# Altium schematic symbol library Resistor.SchLib: 51 symbols (part 1 of 3)
Pins are listed as number, name and electrical type; pins without a type are passive.

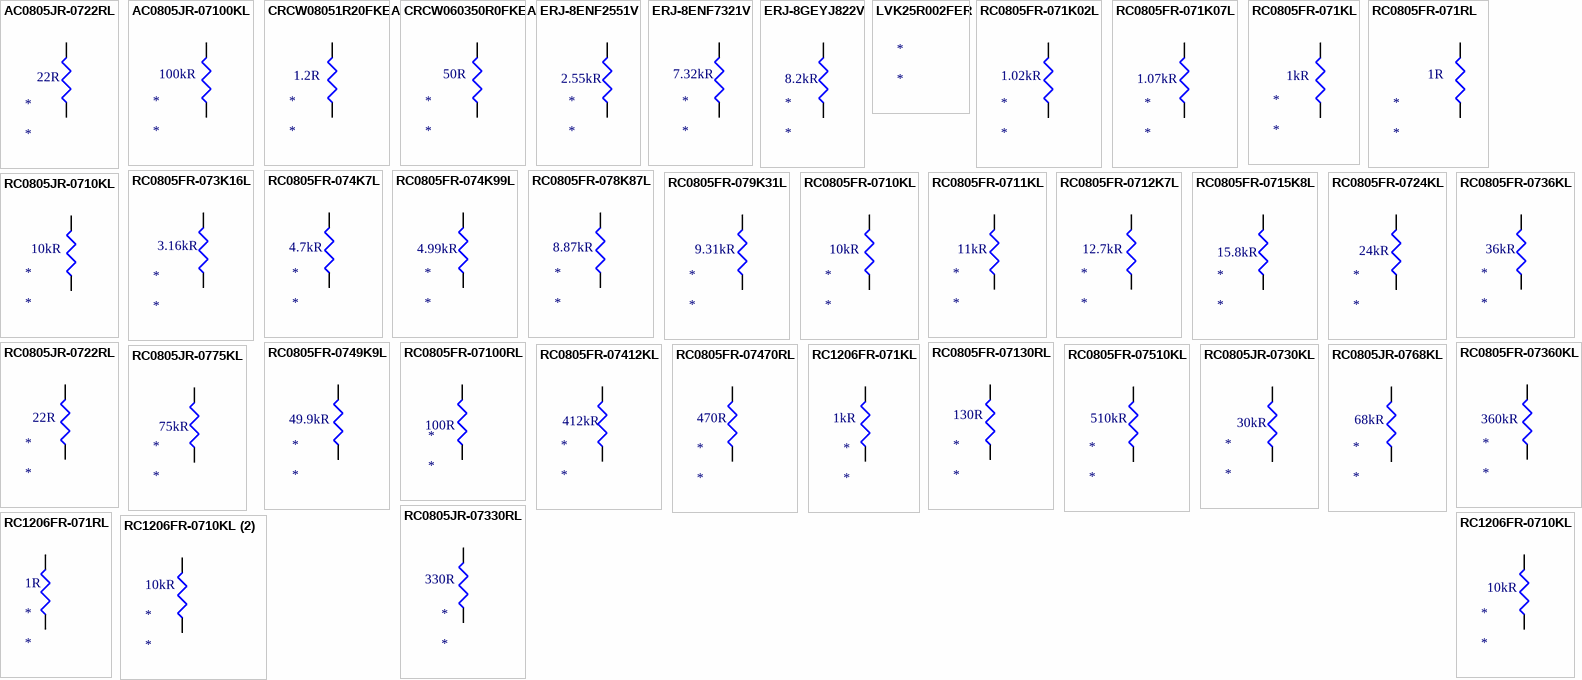
[diagram p0: symbols AC0805JR-0722RL to RC1206FR-0710KL (2)]

## AC0805JR-0722RL
designator *  Resistance: 22R
Thick Film Resistors SMD 0805  22ohm 5% 1/8W; Manufacturer 1: Yageo; Manufacturer Part Number 1: AC0805JR-0722RL; Description: Thick Film Resistors 1/8W 22ohm 5% AEC-Q200; Power Rating: 125mW; Voltage Rating: 150V; Temperature Coefficient: 100ppm/°C; Supplier 1: RSComponents; Stock 1: 2000; Pricing 1: 2500=0,00500 (GBP); RoHS: Yes; Case/Package: 0805; Case Code (Imperial): 0805; Case Code (Metric): 2012; Min Operating Temperature: -55°C; Max Operating Temperature: 155°C; Tolerance: 5%; Packaging: Tape and Reel; Resistor Type: Thick Film; Termination: SMD/SMT; Number of Terminations: 2; Max Power Dissipation: 125mW; Features: Moisture Resistant,Automotive AEC-Q200; Series: AC; Length: 0.079inch; Width: 0.049inch; Height: 0.024inch; RoHS Compliant: Yes; ComponentLink1URL: https://datasheet.ciiva.com/12656/pyu-ac-51-rohs-l-2-12656741.pdf?src-supplier=Mouser; ComponentLink1Description: https://datasheet.ciiva.com/12656/pyu-ac-51-rohs-l-2-12656741.pdf?src-supplier=Mouser; Supplier Part Number 1: 1978232P
pins: 1, 2

## AC0805JR-07100KL
designator *  Resistance: 100kR
Thick Film Resistors - SMD 0805  100K ohm 5% 1/8W; Manufacturer 1: Yageo; Manufacturer Part Number 1: AC0805JR-07100KL; Description: Thick Film Resistors - SMD 1/8W 100K ohm 5% AEC-Q200; Power Rating: 125mW; Voltage Rating: 150V; Temperature Coefficient: 100ppm/°C; Supplier 1: Digi-Key; Stock 1: 23; Pricing 1: 1=0,10000, 10=0,04300, 100=0,01730, 1000=0,00777, 2500=0,00674 (USD); RoHS: Yes; Case/Package: 0805; Case Code (Imperial): 0805; Case Code (Metric): 2012; Weight: 0.000194oz; Min Operating Temperature: -55°C; Max Operating Temperature: 155°C; Tolerance: 5%; Packaging: Tape and Reel; Resistor Type: Thick Film; Number of Terminations: 2; Termination: SMD/SMT; Max Power Dissipation: 125mW; Features: Moisture Resistant,Automotive AEC-Q200; Series: AC; Length: 0.079inch; Width: 0.049inch; Height: 0.024inch; RoHS Compliant: Yes; ComponentLink1URL: https://datasheet.ciiva.com/12576/pyu-ac-51-rohs-l-2-12576604.pdf?src-supplier=Mouser; ComponentLink1Description: https://datasheet.ciiva.com/12576/pyu-ac-51-rohs-l-2-12576604.pdf?src-supplier=Mouser; Supplier Part Number 1: YAG3756CT-ND
pins: 1, 2

## CRCW08051R20FKEA
designator *  Resistance: 1.2R
Res Thick Film smd 0805 1.2 Ohm 1% 0.125W(1/8W); Manufacturer 1: Vishay Dale; Manufacturer Part Number 1: CRCW08051R20FKEA; Description: Res Thick Film 0805 1.2 Ohm 1% 0.125W(1/8W) ±100ppm/°C Pad SMD Automotive T/R; Max Power Dissipation: 125mW; Temperature Coefficient: 100ppm/°C; Supplier 1: Digi-Key; Stock 1: 0; Pricing 1: 1=0,10000, 10=0,08500, 100=0,03280, 1000=0,01442, 2500=0,01246 (USD); RoHS: Yes; Case/Package: 0805; Case Code (Metric): 2012; Case Code (Imperial): 0805; Contact Plating: Tin; Min Operating Temperature: -55°C; Max Operating Temperature: 155°C; Tolerance: 1%; Packaging: Tape and Reel; Number of Terminations: 2; Features: Automotive AEC-Q200; Series: CRCW; Package Quantity: 10; Resistor Type: Thick Film; Construction: Rectangular; Length: 0.079inch; Width: 0.049inch; Height: 0.02inch; Depth: 1.25mm; Radiation Hardening: No; Lead Free: Lead Free; RoHS Compliant: Yes; Military Standard: Not; ComponentLink1URL: https://datasheet.ciiva.com/8337/dcrcwe3-8337642.pdf?src-supplier=Avnet; ComponentLink1Description: https://datasheet.ciiva.com/8337/dcrcwe3-8337642.pdf?src-supplier=Avnet; ComponentLink2URL: https://datasheet.ciiva.com/2562/dcrcwe3-2562854.pdf?src-supplier=Digi-Key; ComponentLink2Description: https://datasheet.ciiva.com/2562/dcrcwe3-2562854.pdf?src-supplier=Digi-Key; ComponentLink3URL: https://datasheet.ciiva.com/2562/dcrcwe3-2562855.pdf?src-supplier=Digi-Key; ComponentLink3Description: https://datasheet.ciiva.com/2562/dcrcwe3-2562855.pdf?src-supplier=Digi-Key; ComponentLink4URL: https://datasheet.ciiva.com/2562/dcrcwe3-2562856.pdf?src-supplier=Digi-Key; ComponentLink4Description: https://datasheet.ciiva.com/2562/dcrcwe3-2562856.pdf?src-supplier=Digi-Key; Supplier Part Number 1: 541-1.20CCCT-ND
pins: 1, 2

## CRCW060350R0FKEA
designator *  Resistance: 50R
VISHAY - CRCW060350R0FKEA - SMD  0603 [1608 Metric], 50 ohm, 100 mW; Manufacturer 1: Vishay Dale; Description: VISHAY - CRCW060350R0FKEA - SMD Chip Resistor, 0603 [1608 Metric], 50 ohm, CRCW e3 Series, 75 V, Thick Film, 100 mW; Tolerance: 1%; Temperature Coefficient: 100ppm/°C; Voltage Rating: 75V; Power Rating: 100mW; Supplier 1: Digi-Key; Manufacturer Part Number 1: CRCW060350R0FKEA; Stock 1: 0; Pricing 1: 1=0,10000, 10=0,05800, 100=0,02340, 1000=0,01051, 2500=0,00912 (USD); RoHS: Yes; Mount: Surface Mount; Case/Package: 0603; Number of Pins: 2; Contact Plating: Tin; Weight: 7.1E-05oz; Case Code (Imperial): 0603; Case Code (Metric): 1608; Size Code: 0603; Min Operating Temperature: -55°C; Max Operating Temperature: 155°C; Resistor Type: Thick Film; Packaging: Tape and Reel; Package Quantity: 5000; Termination: SMD/SMT; Voltage Rating (DC): 75V; Features: Automotive AEC-Q200; Series: CRCW; Max Power Dissipation: 100mW; Number of Terminations: 2; Construction: Rectangular; Resistance Tolerance: 1%; Technology: THICK FILM; Length: 1.55mm; Width: 0.85mm; Height: 0.45mm; Depth: 0.85mm; Radiation Hardening: No; REACH SVHC: No SVHC; Military Standard: Not; Lead Free: Lead Free; RoHS Compliant: Yes; ComponentLink1URL: https://datasheet.ciiva.com/7657/1786679-7657103.pdf?src-supplier=Element14; ComponentLink1Description: https://datasheet.ciiva.com/7657/1786679-7657103.pdf?src-supplier=Element14; ComponentLink2URL: https://datasheet.ciiva.com/7792/1359338-7792320.pdf?src-supplier=Element14; ComponentLink2Description: https://datasheet.ciiva.com/7792/1359338-7792320.pdf?src-supplier=Element14; ComponentLink3URL: https://datasheet.ciiva.com/22665/1697183-22665684.pdf?src-supplier=Element14; ComponentLink3Description: https://datasheet.ciiva.com/22665/1697183-22665684.pdf?src-supplier=Element14; ComponentLink4URL: https://datasheet.ciiva.com/6195/1359338-6195078.pdf?src-supplier=Farnell; ComponentLink4Description: https://datasheet.ciiva.com/6195/1359338-6195078.pdf?src-supplier=Farnell; ComponentLink5URL: https://datasheet.ciiva.com/6195/dcrcwe3-6195095.pdf?src-supplier=Farnell; ComponentLink5Description: https://datasheet.ciiva.com/6195/dcrcwe3-6195095.pdf?src-supplier=Farnell; ComponentLink6URL: https://datasheet.ciiva.com/5550/dcrcwe3-109170-5550010.pdf?src-supplier=Mouser; ComponentLink6Description: https://datasheet.ciiva.com/5550/dcrcwe3-109170-5550010.pdf?src-supplier=Mouser; ComponentLink7URL: https://datasheet.ciiva.com/16720/70201119-16720645.pdf?src-supplier=Allied+Electronics; ComponentLink7Description: https://datasheet.ciiva.com/16720/70201119-16720645.pdf?src-supplier=Allied+Electronics; ComponentLink8URL: https://datasheet.ciiva.com/16494/dcrcwe3-16494475.pdf?src-supplier=Future+Electronics; ComponentLink8Description: https://datasheet.ciiva.com/16494/dcrcwe3-16494475.pdf?src-supplier=Future+Electronics; ComponentLink9URL: https://datasheet.ciiva.com/16884/dcrcwe3-16884668.pdf?src-supplier=Avnet+Europe; ComponentLink9Description: https://datasheet.ciiva.com/16884/dcrcwe3-16884668.pdf?src-supplier=Avnet+Europe; ComponentLink10URL: https://datasheet.ciiva.com/16784/70201119-16784459.pdf?src-supplier=Allied+Electronics; ComponentLink10Description: https://datasheet.ciiva.com/16784/70201119-16784459.pdf?src-supplier=Allied+Electronics; Supplier Part Number 1: 541-3318-1-ND
pins: 1, 2

## ERJ-8ENF2551V
designator *  Resistance: 2.55kR
PANASONIC ELECTRONIC COMPONENTS     smd 1206 [3216 Metric], 2.55 kohm,1%,  250 mW,; Manufacturer Part Number 1: ERJ-8ENF2551V; Description: PANASONIC ELECTRONIC COMPONENTS         ERJ8ENF2551V             SMD Chip Resistor, Thick Film, 2.55 kohm, 200 V, 1206 [3216 Metric], 250 mW,  1%, ERJ8E Series; Power Rating: 250mW; Voltage Rating: 200V; Temperature Coefficient: 100ppm/°C; Supplier 1: Digi-Key; Manufacturer 1: Panasonic; Stock 1: 3235; Pricing 1: 1=0,10000, 10=0,09300, 100=0,03560, 1000=0,01569, 2500=0,01355 (USD); RoHS: Yes; Mount: Surface Mount; Case/Package: 1206; Case Code (Metric): 3216; Case Code (Imperial): 1206; Contact Plating: Tin; Min Operating Temperature: -55°C; Max Operating Temperature: 155°C; Tolerance: 1%; Packaging: Tape and Reel; Package Quantity: 1; Resistor Type: Thick Film; Number of Terminations: 2; Max Power Dissipation: 250mW; Voltage Rating (DC): 200V; Features: Automotive AEC-Q200; Series: ERJ; Resistance Tolerance: 1%; Construction: Rectangular; Length: 3.2mm; Width: 0.063inch; Height: 0.028inch; Depth: 1.6mm; REACH SVHC: No SVHC; Military Standard: Not; RoHS Compliant: Yes; ComponentLink1URL: https://datasheet.ciiva.com/24030/aoa0000ce2-24030810.pdf?src-supplier=Mouser; ComponentLink1Description: https://datasheet.ciiva.com/24030/aoa0000ce2-24030810.pdf?src-supplier=Mouser; ComponentLink2URL: https://datasheet.ciiva.com/9197/aoa0000ce2-9197018.pdf?src-supplier=Avnet; ComponentLink2Description: https://datasheet.ciiva.com/9197/aoa0000ce2-9197018.pdf?src-supplier=Avnet; ComponentLink3URL: https://datasheet.ciiva.com/22736/1678782-22736373.pdf?src-supplier=Element14; ComponentLink3Description: https://datasheet.ciiva.com/22736/1678782-22736373.pdf?src-supplier=Element14; ComponentLink4URL: https://datasheet.ciiva.com/22668/1678782-22668217.pdf?src-supplier=Element14; ComponentLink4Description: https://datasheet.ciiva.com/22668/1678782-22668217.pdf?src-supplier=Element14; Supplier Part Number 1: P2.55KFCT-ND
pins: 1, 2

## ERJ-8ENF7321V
designator *  Resistance: 7.32kR
PANASONIC ELECTRONIC COMPONENTS    SMD 1206 [3216 Metric]  7.32 kohm,  1%,  , 250 mW,; Manufacturer Part Number 1: ERJ-8ENF7321V; Description: PANASONIC ELECTRONIC COMPONENTS         ERJ8ENF7321V             SMD Chip Resistor, Thick Film, 7.32 kohm, 200 V, 1206 [3216 Metric], 250 mW,  1%, ERJ8E Series; Power Rating: 250mW; Voltage Rating: 200V; Temperature Coefficient: 100ppm/°C; Supplier 1: Digi-Key; Manufacturer 1: Panasonic; Stock 1: 14081; Pricing 1: 1=0,10000, 10=0,09300, 100=0,03560, 1000=0,01569, 2500=0,01355 (USD); RoHS: Yes; Mount: Surface Mount; Case/Package: 1206; Case Code (Metric): 3216; Case Code (Imperial): 1206; Contact Plating: Tin; Min Operating Temperature: -55°C; Max Operating Temperature: 155°C; Tolerance: 1%; Packaging: Tape and Reel; Package Quantity: 1; Resistor Type: Thick Film; Number of Terminations: 2; Max Power Dissipation: 250mW; Voltage Rating (DC): 200V; Features: Automotive AEC-Q200; Series: ERJ; Resistance Tolerance: 1%; Length: 0.126inch; Width: 0.063inch; Height: 0.028inch; REACH SVHC: Yes; Lead Free: Contains Lead; RoHS Compliant: Yes; ComponentLink1URL: https://datasheet.ciiva.com/24028/aoa0000ce2-24028743.pdf?src-supplier=Mouser; ComponentLink1Description: https://datasheet.ciiva.com/24028/aoa0000ce2-24028743.pdf?src-supplier=Mouser; ComponentLink2URL: https://datasheet.ciiva.com/22681/1678782-22681368.pdf?src-supplier=Element14; ComponentLink2Description: https://datasheet.ciiva.com/22681/1678782-22681368.pdf?src-supplier=Element14; Supplier Part Number 1: P7.32KFCT-ND
pins: 1, 2

## ERJ-8GEYJ822V
designator *  Resistance: 8.2kR
RES SMD 1206 8.2K OHM 5% 1/4W; Manufacturer 1: Panasonic; Manufacturer Part Number 1: ERJ-8GEYJ822V; Description: RES SMD 8.2K OHM 5% 1/4W 1206; Temperature Coefficient: 200ppm/°C; Power Rating: 250mW; Voltage Rating: 200V; Supplier 1: Digi-Key; Stock 1: 71483; Pricing 1: 1=0,10000, 10=0,06800, 100=0,02780, 1000=0,01249, 2500=0,01084 (USD); RoHS: Yes; Mount: Surface Mount; Case/Package: 1206; Contact Plating: Tin; Case Code (Metric): 3216; Case Code (Imperial): 1206; Min Operating Temperature: -55°C; Max Operating Temperature: 155°C; Tolerance: 5%; Resistor Type: Thick Film; Packaging: Tape and Reel; Package Quantity: 1; Number of Terminations: 2; Max Power Dissipation: 250mW; Voltage Rating (DC): 200V; Features: Automotive AEC-Q200; Series: ERJ; Resistance Tolerance: 5%; Construction: Rectangular; Length: 3.2mm; Width: 0.063inch; Height: 0.028inch; Depth: 1.6mm; Radiation Hardening: No; REACH SVHC: No SVHC; Military Standard: Not; Lead Free: Contains Lead; RoHS Compliant: Yes; ComponentLink1URL: https://datasheet.ciiva.com/9194/aoa0000ce1-9194699.pdf?src-supplier=Avnet; ComponentLink1Description: https://datasheet.ciiva.com/9194/aoa0000ce1-9194699.pdf?src-supplier=Avnet; ComponentLink2URL: https://datasheet.ciiva.com/43460/1500035-43460246.pdf?src-supplier=Farnell; ComponentLink2Description: https://datasheet.ciiva.com/43460/1500035-43460246.pdf?src-supplier=Farnell; ComponentLink3URL: https://datasheet.ciiva.com/16512/aoa0000ce1-16512520.pdf?src-supplier=Avnet+Asia; ComponentLink3Description: https://datasheet.ciiva.com/16512/aoa0000ce1-16512520.pdf?src-supplier=Avnet+Asia; ComponentLink4URL: https://datasheet.ciiva.com/24027/aoa0000ce1-37422-24027382.pdf?src-supplier=Mouser; ComponentLink4Description: https://datasheet.ciiva.com/24027/aoa0000ce1-37422-24027382.pdf?src-supplier=Mouser; ComponentLink5URL: https://datasheet.ciiva.com/17212/aoa0000ce1-17212362.pdf?src-supplier=Avnet+Europe; ComponentLink5Description: https://datasheet.ciiva.com/17212/aoa0000ce1-17212362.pdf?src-supplier=Avnet+Europe; ComponentLink6URL: https://datasheet.ciiva.com/30101/4aoa0000ce1-30101101.pdf?src-supplier=Onlinecomponents.com; ComponentLink6Description: https://datasheet.ciiva.com/30101/4aoa0000ce1-30101101.pdf?src-supplier=Onlinecomponents.com; ComponentLink7URL: https://datasheet.ciiva.com/46388/1500035-46388517.pdf?src-supplier=Element14; ComponentLink7Description: https://datasheet.ciiva.com/46388/1500035-46388517.pdf?src-supplier=Element14; ComponentLink8URL: https://datasheet.ciiva.com/28676/1678796-28676349.pdf?src-supplier=Element14; ComponentLink8Description: https://datasheet.ciiva.com/28676/1678796-28676349.pdf?src-supplier=Element14; ComponentLink9URL: https://datasheet.ciiva.com/46377/1500035-46377046.pdf?src-supplier=Element14; ComponentLink9Description: https://datasheet.ciiva.com/46377/1500035-46377046.pdf?src-supplier=Element14; Supplier Part Number 1: P8.2KECT-ND
pins: 1, 2

## LVK25R002FER
designator *
RES 0.002 OHM 2W 2512 WIDE; Manufacturer 1: Ohmite; Manufacturer Part Number 1: LVK25R002FER; Tolerance: 1%; Temperature Coefficient: 200ppm/°C; Supplier 1: Digi-Key; Stock 1: 11667; Pricing 1: 1=1,98000, 10=1,76000, 25=1,63200, 50=1,53600, 100=1,34400, 250=1,15200, 500=0,96000 (USD); RoHS: Yes; Mount: Surface Mount; Case/Package: 1224; Number of Pins: 2; Case Code (Metric): 3264; Case Code (Imperial): 1224; Min Operating Temperature: -40°C; Max Operating Temperature: 125°C; Power Rating: 2W; Packaging: Tape and Reel; Package Quantity: 1000; Resistor Type: Metal Film,Thick Film,Thin Film; Termination: SMD/SMT; Length: 3.2mm; Width: 6.4mm; Height: 0.5mm; Depth: 6.4mm; REACH SVHC: Unknown; RoHS Compliant: Yes; ComponentLink1URL: https://datasheet.ciiva.com/7715/575641-7715550.pdf?src-supplier=Element14; ComponentLink1Description: https://datasheet.ciiva.com/7715/575641-7715550.pdf?src-supplier=Element14; ComponentLink2URL: https://datasheet.ciiva.com/5970/575641-5970646.pdf?src-supplier=Farnell; ComponentLink2Description: https://datasheet.ciiva.com/5970/575641-5970646.pdf?src-supplier=Farnell; ComponentLink3URL: https://datasheet.ciiva.com/7715/575641-7715549.pdf?src-supplier=Element14; ComponentLink3Description: https://datasheet.ciiva.com/7715/575641-7715549.pdf?src-supplier=Element14; ComponentLink4URL: https://datasheet.ciiva.com/28655/1928848-28655701.pdf?src-supplier=Element14; ComponentLink4Description: https://datasheet.ciiva.com/28655/1928848-28655701.pdf?src-supplier=Element14; ComponentLink5URL: https://datasheet.ciiva.com/46385/1786747-46385481.pdf?src-supplier=Element14; ComponentLink5Description: https://datasheet.ciiva.com/46385/1786747-46385481.pdf?src-supplier=Element14; ComponentLink6URL: https://datasheet.ciiva.com/16783/70024650-16783654.pdf?src-supplier=Allied+Electronics; ComponentLink6Description: https://datasheet.ciiva.com/16783/70024650-16783654.pdf?src-supplier=Allied+Electronics; ComponentLink7URL: https://datasheet.ciiva.com/15865/40lvk-15865323.pdf?src-supplier=Onlinecomponents.com; ComponentLink7Description: https://datasheet.ciiva.com/15865/40lvk-15865323.pdf?src-supplier=Onlinecomponents.com; Supplier Part Number 1: LVK25R002FERCT-ND

## RC0805FR-071K02L
designator *  Resistance: 1.02kR
Res Thick Film smd 0805 1.02K Ohm 1% 0.125W(1/8W); Manufacturer 1: Yageo; Manufacturer Part Number 1: RC0805FR-071K02L; Description: Res Thick Film 2.0 x 1.2 mm 1.02K Ohm 1% 0.125W(1/8W) 100ppm/ C Molded SMD Paper T/R; Voltage Rating: 150V; Power Rating: 125mW; Temperature Coefficient: 100ppm/°C; Supplier 1: Digi-Key; Stock 1: 21780; Pricing 1: 1=0,10000, 10=0,04200, 100=0,01690, 1000=0,00759, 2500=0,00659 (USD); RoHS: Yes; Case/Package: 0805; Case Code (Imperial): 0805; Case Code (Metric): 2012; Size Code: 0805; Min Operating Temperature: -55°C; Max Operating Temperature: 155°C; Tolerance: 1%; Packaging: Tape and Reel; Termination: SMD/SMT; Resistor Type: Thick Film; Voltage Rating (DC): 150V; Features: Moisture Resistant; Series: RC; Max Power Dissipation: 125mW; Number of Terminations: 2; Construction: Rectangular; Length: 2mm; Width: 1.25mm; Height: 0.5mm; Depth: 1.25mm; Military Standard: Not; Lead Free: Lead Free; RoHS Compliant: Yes; ComponentLink1URL: https://datasheet.ciiva.com/12557/rc0805-257173-12557847.pdf?src-supplier=Mouser; ComponentLink1Description: https://datasheet.ciiva.com/12557/rc0805-257173-12557847.pdf?src-supplier=Mouser; ComponentLink2URL: https://datasheet.ciiva.com/16746/rc0805-16746216.pdf?src-supplier=Future+Electronics; ComponentLink2Description: https://datasheet.ciiva.com/16746/rc0805-16746216.pdf?src-supplier=Future+Electronics; Supplier Part Number 1: 311-1.02KCRCT-ND
pins: 1, 2

## RC0805FR-071K07L
designator *  Resistance: 1.07kR
Res Thick Film smd 0805 1.07K Ohm 1% 1/8W; Manufacturer 1: Yageo; Manufacturer Part Number 1: RC0805FR-071K07L; Description: Res Thick Film 0805 1.07K Ohm 1% 1/8W 100ppm/C Molded SMD Paper T/R; Temperature Coefficient: 100ppm/°C; Power Rating: 125mW; Voltage Rating: 150V; Supplier 1: Digi-Key; Stock 1: 16589; Pricing 1: 1=0,10000, 10=0,04200, 100=0,01690, 1000=0,00759, 2500=0,00659 (USD); RoHS: Yes; Case/Package: 0805; Contact Plating: Tin,Matte; Case Code (Imperial): 0805; Case Code (Metric): 2012; Size Code: 0805; Min Operating Temperature: -55°C; Max Operating Temperature: 155°C; Tolerance: 1%; Resistor Type: Thick Film; Packaging: Tape and Reel; Package Quantity: 1; Termination: SMD/SMT; Number of Terminations: 2; Max Power Dissipation: 125mW; Voltage Rating (DC): 150V; Features: Moisture Resistant; Series: RC; Construction: Rectangular; Length: 2mm; Width: 1.25mm; Height: 0.024inch; Depth: 1.25mm; Military Standard: Not; Lead Free: Lead Free; RoHS Compliant: Yes; ComponentLink1URL: https://datasheet.ciiva.com/2491/pyu-r-int-thick-7-2491690.pdf?src-supplier=Digi-Key; ComponentLink1Description: https://datasheet.ciiva.com/2491/pyu-r-int-thick-7-2491690.pdf?src-supplier=Digi-Key; ComponentLink2URL: https://datasheet.ciiva.com/2491/pyu-r-int-thick-7-2491691.pdf?src-supplier=Digi-Key; ComponentLink2Description: https://datasheet.ciiva.com/2491/pyu-r-int-thick-7-2491691.pdf?src-supplier=Digi-Key; ComponentLink3URL: https://datasheet.ciiva.com/2491/pyu-r-int-thick-7-2491692.pdf?src-supplier=Digi-Key; ComponentLink3Description: https://datasheet.ciiva.com/2491/pyu-r-int-thick-7-2491692.pdf?src-supplier=Digi-Key; ComponentLink4URL: https://datasheet.ciiva.com/17054/rc0805-17054582.pdf?src-supplier=Future+Electronics; ComponentLink4Description: https://datasheet.ciiva.com/17054/rc0805-17054582.pdf?src-supplier=Future+Electronics; Supplier Part Number 1: 311-1.07KCRCT-ND
pins: 1, 2

## RC0805FR-071KL
designator *  Resistance: 1kR
RES SMD 0805 1K OHM 1% 1/8W; Manufacturer 1: Yageo; Manufacturer Part Number 1: RC0805FR-071KL; Description: RES SMD 1K OHM 1% 1/8W 0805; Temperature Coefficient: 100ppm/°C; Voltage Rating (DC): 150V; Power Rating: 125mW; Supplier 1: Digi-Key; Stock 1: 3222339; Pricing 1: 1=0,10000, 10=0,04200, 100=0,01690, 1000=0,00759, 2500=0,00659 (USD); RoHS: Yes; Case/Package: 0805; Number of Pins: 2; Case Code (Metric): 2012; Case Code (Imperial): 0805; Size Code: 0805; Min Operating Temperature: -55°C; Max Operating Temperature: 155°C; Tolerance: 1%; Resistor Type: Thick Film; Packaging: Tape and Reel; Package Quantity: 1; Voltage Rating: 150V; Number of Terminations: 2; Termination: SMD/SMT; Max Power Dissipation: 125mW; Features: Moisture Resistant; Series: RC; Resistance Tolerance: 1%; Construction: Rectangular; Length: 0.079inch; Width: 0.049inch; Height: 0.024inch; Depth: 1.25mm; REACH SVHC: Unknown; Lead Free: Lead Free; RoHS Compliant: Yes; Military Standard: Not; ComponentLink1URL: https://datasheet.ciiva.com/46385/444164-46385020.pdf?src-supplier=Element14; ComponentLink1Description: https://datasheet.ciiva.com/46385/444164-46385020.pdf?src-supplier=Element14; ComponentLink2URL: https://datasheet.ciiva.com/2456/pyu-r-int-thick-7-2456975.pdf?src-supplier=Digi-Key; ComponentLink2Description: https://datasheet.ciiva.com/2456/pyu-r-int-thick-7-2456975.pdf?src-supplier=Digi-Key; ComponentLink3URL: https://datasheet.ciiva.com/2456/pyu-r-int-thick-7-2456976.pdf?src-supplier=Digi-Key; ComponentLink3Description: https://datasheet.ciiva.com/2456/pyu-r-int-thick-7-2456976.pdf?src-supplier=Digi-Key; ComponentLink4URL: https://datasheet.ciiva.com/2456/pyu-r-int-thick-7-2456977.pdf?src-supplier=Digi-Key; ComponentLink4Description: https://datasheet.ciiva.com/2456/pyu-r-int-thick-7-2456977.pdf?src-supplier=Digi-Key; ComponentLink5URL: https://datasheet.ciiva.com/16850/rc0805-16850409.pdf?src-supplier=Future+Electronics; ComponentLink5Description: https://datasheet.ciiva.com/16850/rc0805-16850409.pdf?src-supplier=Future+Electronics; ComponentLink6URL: https://datasheet.ciiva.com/7941/1686128-7941719.pdf?src-supplier=Element14; ComponentLink6Description: https://datasheet.ciiva.com/7941/1686128-7941719.pdf?src-supplier=Element14; Supplier Part Number 1: 311-1.00KCRCT-ND
pins: 1, 2

## RC0805FR-071RL
designator *  Resistance: 1R
YAGEO - RC0805FR-071RL - SMD  0805 [2012 Metric], 1 ohm, RC  125 mW; Description: YAGEO - RC0805FR-071RL - SMD Chip Resistor, 0805 [2012 Metric], 1 ohm, RC Series, 150 V, Thick Film, 125 mW; Voltage Rating: 150V; Tolerance: 1%; Power Rating: 125mW; Temperature Coefficient: 200ppm/°C; Supplier 1: Digi-Key; Manufacturer 1: Yageo; Manufacturer Part Number 1: RC0805FR-071RL; Stock 1: 0; Pricing 1: 1=0,10000, 10=0,08300, 100=0,03390, 1000=0,01521, 2500=0,01320 (USD); RoHS: Yes; Case/Package: 0805; Case Code (Imperial): 0805; Case Code (Metric): 2012; Size Code: 0805; Min Operating Temperature: -55°C; Max Operating Temperature: 155°C; Packaging: Tape and Reel; Package Quantity: 1; Termination: SMD/SMT; Resistor Type: Thick Film; Number of Terminations: 2; Max Power Dissipation: 125mW; Features: Moisture Resistant; Series: RC; Resistance Tolerance: 1%; Construction: Rectangular; Technology: THICK FILM; Length: 2mm; Width: 0.049inch; Height: 0.024inch; Depth: 1.25mm; REACH SVHC: Unknown; Military Standard: Not; Lead Free: Lead Free; RoHS Compliant: Yes; ComponentLink1URL: https://datasheet.ciiva.com/11808/0900766b8106beab-11808253.pdf?src-supplier=RSComponents; ComponentLink1Description: https://datasheet.ciiva.com/11808/0900766b8106beab-11808253.pdf?src-supplier=RSComponents; ComponentLink2URL: https://datasheet.ciiva.com/2459/pyu-r-int-thick-7-2459662.pdf?src-supplier=Digi-Key; ComponentLink2Description: https://datasheet.ciiva.com/2459/pyu-r-int-thick-7-2459662.pdf?src-supplier=Digi-Key; ComponentLink3URL: https://datasheet.ciiva.com/2459/pyu-r-int-thick-7-2459661.pdf?src-supplier=Digi-Key; ComponentLink3Description: https://datasheet.ciiva.com/2459/pyu-r-int-thick-7-2459661.pdf?src-supplier=Digi-Key; ComponentLink4URL: https://datasheet.ciiva.com/2459/pyu-r-int-thick-7-2459663.pdf?src-supplier=Digi-Key; ComponentLink4Description: https://datasheet.ciiva.com/2459/pyu-r-int-thick-7-2459663.pdf?src-supplier=Digi-Key; ComponentLink5URL: https://datasheet.ciiva.com/7941/444164-7941736.pdf?src-supplier=Element14; ComponentLink5Description: https://datasheet.ciiva.com/7941/444164-7941736.pdf?src-supplier=Element14; ComponentLink6URL: https://datasheet.ciiva.com/7941/444164-7941737.pdf?src-supplier=Element14; ComponentLink6Description: https://datasheet.ciiva.com/7941/444164-7941737.pdf?src-supplier=Element14; Supplier Part Number 1: 311-1.00CRDKR-ND
pins: 1, 2

## RC0805FR-073K16L
designator *  Resistance: 3.16kR
Res Thick Film smd 0805 3.16K Ohm 1% 0.125W(1/8W); Manufacturer 1: Yageo; Manufacturer Part Number 1: RC0805FR-073K16L; Description: Res Thick Film 2.0 x 1.2 mm 3.16K Ohm 1% 0.125W(1/8W) 100ppm/ C Molded SMD Paper T/R; Power Rating: 125mW; Voltage Rating: 150V; Temperature Coefficient: 100ppm/°C; Supplier 1: Digi-Key; Stock 1: 24399; Pricing 1: 1=0,10000, 10=0,04200, 100=0,01690, 1000=0,00759, 2500=0,00659 (USD); RoHS: Yes; Case/Package: 0805; Case Code (Metric): 2012; Case Code (Imperial): 0805; Weight: 0.000194oz; Size Code: 0805; Min Operating Temperature: -55°C; Max Operating Temperature: 155°C; Tolerance: 1%; Package Quantity: 1; Packaging: Tape and Reel; Resistor Type: Thick Film; Number of Terminations: 2; Termination: SMD/SMT; Max Power Dissipation: 125mW; Voltage Rating (DC): 150V; Features: Moisture Resistant; Series: RC; Construction: Rectangular; Length: 2mm; Width: 0.049inch; Height: 0.024inch; Depth: 1.25mm; Military Standard: Not; Lead Free: Lead Free; RoHS Compliant: Yes; ComponentLink1URL: https://datasheet.ciiva.com/2457/pyu-r-int-thick-7-2457284.pdf?src-supplier=Digi-Key; ComponentLink1Description: https://datasheet.ciiva.com/2457/pyu-r-int-thick-7-2457284.pdf?src-supplier=Digi-Key; ComponentLink2URL: https://datasheet.ciiva.com/2457/pyu-r-int-thick-7-2457285.pdf?src-supplier=Digi-Key; ComponentLink2Description: https://datasheet.ciiva.com/2457/pyu-r-int-thick-7-2457285.pdf?src-supplier=Digi-Key; ComponentLink3URL: https://datasheet.ciiva.com/2457/pyu-r-int-thick-7-2457286.pdf?src-supplier=Digi-Key; ComponentLink3Description: https://datasheet.ciiva.com/2457/pyu-r-int-thick-7-2457286.pdf?src-supplier=Digi-Key; ComponentLink4URL: https://datasheet.ciiva.com/12577/rc0805-12577436.pdf?src-supplier=Mouser; ComponentLink4Description: https://datasheet.ciiva.com/12577/rc0805-12577436.pdf?src-supplier=Mouser; Supplier Part Number 1: 311-3.16KCRCT-ND
pins: 1, 2

## RC0805FR-074K7L
designator *  Resistance: 4.7kR
YAGEO - RC0805FR-074K7L - SMD  0805 [2012 Metric], 4.7 kohm,  125 mW; Description: YAGEO - RC0805FR-074K7L - SMD Chip Resistor, 0805 [2012 Metric], 4.7 kohm, RC Series, 150 V, Thick Film, 125 mW; Tolerance: 1%; Temperature Coefficient: 100ppm/°C; Voltage Rating (DC): 150V; Power Rating: 125mW; Supplier 1: RSComponents; Manufacturer 1: Yageo; Manufacturer Part Number 1: RC0805FR-074K7L; Stock 1: 55000; Pricing 1: 5000=0,00500 (GBP); RoHS: Yes; Case/Package: 0805; Number of Pins: 2; Case Code (Metric): 2012; Case Code (Imperial): 0805; Size Code: 0805; Min Operating Temperature: -55°C; Max Operating Temperature: 155°C; Resistor Type: Thick Film; Packaging: Tape and Reel; Package Quantity: 5000; Voltage Rating: 150V; Number of Terminations: 2; Termination: SMD/SMT; Max Power Dissipation: 125mW; Features: Moisture Resistant; Series: RC; Resistance Tolerance: 1%; Technology: THICK FILM; Construction: Rectangular; Length: 0.079inch; Width: 0.049inch; Height: 0.024inch; Depth: 1.25mm; REACH SVHC: No SVHC; Lead Free: Lead Free; RoHS Compliant: Yes; Military Standard: Not; ComponentLink1URL: https://datasheet.ciiva.com/11808/0900766b8106beab-11808155.pdf?src-supplier=RSComponents; ComponentLink1Description: https://datasheet.ciiva.com/11808/0900766b8106beab-11808155.pdf?src-supplier=RSComponents; ComponentLink2URL: https://datasheet.ciiva.com/6547/pyu-r-int-thick-7-6547263.pdf?src-supplier=Digi-Key; ComponentLink2Description: https://datasheet.ciiva.com/6547/pyu-r-int-thick-7-6547263.pdf?src-supplier=Digi-Key; ComponentLink3URL: https://datasheet.ciiva.com/7941/444164-7941806.pdf?src-supplier=Element14; ComponentLink3Description: https://datasheet.ciiva.com/7941/444164-7941806.pdf?src-supplier=Element14; ComponentLink4URL: https://datasheet.ciiva.com/46447/444164-46447583.pdf?src-supplier=Element14; ComponentLink4Description: https://datasheet.ciiva.com/46447/444164-46447583.pdf?src-supplier=Element14; ComponentLink5URL: https://datasheet.ciiva.com/7941/444164-7941804.pdf?src-supplier=Element14; ComponentLink5Description: https://datasheet.ciiva.com/7941/444164-7941804.pdf?src-supplier=Element14; ComponentLink6URL: https://datasheet.ciiva.com/7941/1686128-7941805.pdf?src-supplier=Element14; ComponentLink6Description: https://datasheet.ciiva.com/7941/1686128-7941805.pdf?src-supplier=Element14; Supplier Part Number 1: 6181408
pins: 1, 2

## RC0805FR-074K99L
designator *  Resistance: 4.99kR
Res Thick Film smd 0805 4.99K Ohm 1% 0.125W(1/8W); Manufacturer 1: Yageo; Manufacturer Part Number 1: RC0805FR-074K99L; Description: Res Thick Film 0805 4.99K Ohm 1% 0.125W(1/8W) ±100ppm/C Epoxy Pad SMD T/R; Power Rating: 125mW; Voltage Rating: 150V; Temperature Coefficient: 100ppm/°C; Supplier 1: RSComponents; Stock 1: 34999; Pricing 1: 5000=0,00400 (GBP); RoHS: Yes; Mount: Surface Mount; Case/Package: 0805; Case Code (Metric): 2012; Case Code (Imperial): 0805; Size Code: 0805; Min Operating Temperature: -55°C; Max Operating Temperature: 155°C; Packaging: Tape and Reel; Tolerance: 1%; Package Quantity: 1; Resistor Type: Thick Film; Number of Terminations: 2; Termination: SMD/SMT; Max Power Dissipation: 125mW; Voltage Rating (DC): 150V; Features: Moisture Resistant; Series: RC; Construction: Rectangular; Technology: THICK FILM; Length: 2mm; Width: 0.049inch; Height: 0.024inch; Depth: 1.25mm; Military Standard: Not; Lead Free: Lead Free; RoHS Compliant: Yes; ComponentLink1URL: https://datasheet.ciiva.com/11808/0900766b8106beab-11808099.pdf?src-supplier=RSComponents; ComponentLink1Description: https://datasheet.ciiva.com/11808/0900766b8106beab-11808099.pdf?src-supplier=RSComponents; ComponentLink2URL: https://datasheet.ciiva.com/2456/pyu-r-int-thick-7-2456983.pdf?src-supplier=Digi-Key; ComponentLink2Description: https://datasheet.ciiva.com/2456/pyu-r-int-thick-7-2456983.pdf?src-supplier=Digi-Key; ComponentLink3URL: https://datasheet.ciiva.com/12656/rc0805-12656731.pdf?src-supplier=Mouser; ComponentLink3Description: https://datasheet.ciiva.com/12656/rc0805-12656731.pdf?src-supplier=Mouser; ComponentLink4URL: https://datasheet.ciiva.com/2456/pyu-r-int-thick-7-2456981.pdf?src-supplier=Digi-Key; ComponentLink4Description: https://datasheet.ciiva.com/2456/pyu-r-int-thick-7-2456981.pdf?src-supplier=Digi-Key; ComponentLink5URL: https://datasheet.ciiva.com/2456/pyu-r-int-thick-7-2456982.pdf?src-supplier=Digi-Key; ComponentLink5Description: https://datasheet.ciiva.com/2456/pyu-r-int-thick-7-2456982.pdf?src-supplier=Digi-Key; Supplier Part Number 1: 6181420
pins: 1, 2

## RC0805FR-078K87L
designator *  Resistance: 8.87kR
Res Thick Film smd 0805 8.87K Ohm 1% 0.125W(1/8W); Manufacturer 1: Yageo; Manufacturer Part Number 1: RC0805FR-078K87L; Description: Res Thick Film 0805 8.87K Ohm 1% 0.125W(1/8W) ±100ppm/C Epoxy Pad SMD T/R; Temperature Coefficient: 100ppm/°C; Power Rating: 125mW; Voltage Rating: 150V; Supplier 1: Digi-Key; Stock 1: 7; Pricing 1: 1=0,10000, 10=0,04200, 100=0,01690, 1000=0,00759, 2500=0,00659 (USD); RoHS: Yes; Case/Package: 0805; Contact Plating: Tin,Lead,Matte; Case Code (Metric): 2012; Case Code (Imperial): 0805; Size Code: 0805; Min Operating Temperature: -55°C; Max Operating Temperature: 155°C; Tolerance: 1%; Resistor Type: Thick Film; Package Quantity: 1; Packaging: Tape and Reel; Number of Terminations: 2; Termination: SMD/SMT; Max Power Dissipation: 125mW; Voltage Rating (DC): 150V; Features: Moisture Resistant; Series: RC; Construction: Rectangular; Length: 2mm; Width: 0.049inch; Height: 0.024inch; Depth: 1.25mm; Radiation Hardening: No; Military Standard: Not; Lead Free: Lead Free; RoHS Compliant: Yes; ComponentLink1URL: https://datasheet.ciiva.com/2491/pyu-r-int-thick-7-2491577.pdf?src-supplier=Digi-Key; ComponentLink1Description: https://datasheet.ciiva.com/2491/pyu-r-int-thick-7-2491577.pdf?src-supplier=Digi-Key; ComponentLink2URL: https://datasheet.ciiva.com/2491/pyu-r-int-thick-7-2491578.pdf?src-supplier=Digi-Key; ComponentLink2Description: https://datasheet.ciiva.com/2491/pyu-r-int-thick-7-2491578.pdf?src-supplier=Digi-Key; ComponentLink3URL: https://datasheet.ciiva.com/2491/pyu-r-int-thick-7-2491576.pdf?src-supplier=Digi-Key; ComponentLink3Description: https://datasheet.ciiva.com/2491/pyu-r-int-thick-7-2491576.pdf?src-supplier=Digi-Key; ComponentLink4URL: https://datasheet.ciiva.com/17423/rc0805-17423031.pdf?src-supplier=Future+Electronics; ComponentLink4Description: https://datasheet.ciiva.com/17423/rc0805-17423031.pdf?src-supplier=Future+Electronics; Supplier Part Number 1: 311-8.87KCRCT-ND
pins: 1, 2

## RC0805FR-079K31L
designator *  Resistance: 9.31kR
Res Thick Film smd 0805 9.31K Ohm 1% 0.125W(1/8W); Manufacturer 1: Yageo; Manufacturer Part Number 1: RC0805FR-079K31L; Description: Res Thick Film 0805 9.31K Ohm 1% 0.125W(1/8W) ±100ppm/C Molded SMD Paper T/R; Temperature Coefficient: 100ppm/°C; Power Rating: 125mW; Voltage Rating: 150V; Supplier 1: Digi-Key; Stock 1: 10181; Pricing 1: 1=0,10000, 10=0,04200, 100=0,01690, 1000=0,00759, 2500=0,00659 (USD); RoHS: Yes; Case/Package: 0805; Contact Plating: Tin,Lead,Matte; Case Code (Imperial): 0805; Case Code (Metric): 2012; Size Code: 0805; Min Operating Temperature: -55°C; Max Operating Temperature: 155°C; Tolerance: 1%; Resistor Type: Thick Film; Packaging: Tape and Reel; Package Quantity: 1; Termination: SMD/SMT; Number of Terminations: 2; Max Power Dissipation: 125mW; Voltage Rating (DC): 150V; Features: Moisture Resistant; Series: RC; Construction: Rectangular; Length: 2mm; Width: 1.25mm; Height: 0.024inch; Depth: 1.25mm; Radiation Hardening: No; Military Standard: Not; Lead Free: Lead Free; RoHS Compliant: Yes; ComponentLink1URL: https://datasheet.ciiva.com/2457/pyu-r-int-thick-7-2457635.pdf?src-supplier=Digi-Key; ComponentLink1Description: https://datasheet.ciiva.com/2457/pyu-r-int-thick-7-2457635.pdf?src-supplier=Digi-Key; ComponentLink2URL: https://datasheet.ciiva.com/2457/pyu-r-int-thick-7-2457636.pdf?src-supplier=Digi-Key; ComponentLink2Description: https://datasheet.ciiva.com/2457/pyu-r-int-thick-7-2457636.pdf?src-supplier=Digi-Key; ComponentLink3URL: https://datasheet.ciiva.com/2457/pyu-r-int-thick-7-2457637.pdf?src-supplier=Digi-Key; ComponentLink3Description: https://datasheet.ciiva.com/2457/pyu-r-int-thick-7-2457637.pdf?src-supplier=Digi-Key; ComponentLink4URL: https://datasheet.ciiva.com/17074/rc0805-17074679.pdf?src-supplier=Future+Electronics; ComponentLink4Description: https://datasheet.ciiva.com/17074/rc0805-17074679.pdf?src-supplier=Future+Electronics; Supplier Part Number 1: 311-9.31KCRCT-ND
pins: 1, 2

## RC0805FR-0710KL
designator *  Resistance: 10kR
RES SMD  0805 10K OHM 1% 1/8W; Manufacturer 1: Yageo; Manufacturer Part Number 1: RC0805FR-0710KL; Description: RES SMD 10K OHM 1% 1/8W 0805; Temperature Coefficient: 100ppm/°C; Power Rating: 125mW; Voltage Rating: 150V; Supplier 1: Digi-Key; Stock 1: 7813114; Pricing 1: 1=0,10000, 10=0,04200, 100=0,01690, 1000=0,00759, 2500=0,00659 (USD); RoHS: Yes; Case/Package: 0805; Case Code (Imperial): 0805; Case Code (Metric): 2012; Size Code: 0805; Min Operating Temperature: -55°C; Max Operating Temperature: 155°C; Tolerance: 1%; Resistor Type: Thick Film; Packaging: Tape and Reel; Package Quantity: 1; Termination: SMD/SMT; Number of Terminations: 2; Max Power Dissipation: 125mW; Features: Moisture Resistant; Series: RC; Construction: Rectangular; Resistance Tolerance: 1%; Technology: THICK FILM; Length: 2mm; Width: 0.049inch; Height: 0.024inch; Depth: 1.25mm; REACH SVHC: Unknown; Military Standard: Not; Lead Free: Lead Free; RoHS Compliant: Yes; ComponentLink1URL: https://datasheet.ciiva.com/11808/0900766b8106beab-11808151.pdf?src-supplier=RSComponents; ComponentLink1Description: https://datasheet.ciiva.com/11808/0900766b8106beab-11808151.pdf?src-supplier=RSComponents; ComponentLink2URL: https://datasheet.ciiva.com/12669/rc0805-12669688.pdf?src-supplier=Mouser; ComponentLink2Description: https://datasheet.ciiva.com/12669/rc0805-12669688.pdf?src-supplier=Mouser; ComponentLink3URL: https://datasheet.ciiva.com/2456/pyu-r-int-thick-7-2456974.pdf?src-supplier=Digi-Key; ComponentLink3Description: https://datasheet.ciiva.com/2456/pyu-r-int-thick-7-2456974.pdf?src-supplier=Digi-Key; ComponentLink4URL: https://datasheet.ciiva.com/2456/pyu-r-int-thick-7-2456972.pdf?src-supplier=Digi-Key; ComponentLink4Description: https://datasheet.ciiva.com/2456/pyu-r-int-thick-7-2456972.pdf?src-supplier=Digi-Key; ComponentLink5URL: https://datasheet.ciiva.com/2456/pyu-r-int-thick-7-2456973.pdf?src-supplier=Digi-Key; ComponentLink5Description: https://datasheet.ciiva.com/2456/pyu-r-int-thick-7-2456973.pdf?src-supplier=Digi-Key; ComponentLink6URL: https://datasheet.ciiva.com/16747/rc0805-16747087.pdf?src-supplier=Future+Electronics; ComponentLink6Description: https://datasheet.ciiva.com/16747/rc0805-16747087.pdf?src-supplier=Future+Electronics; ComponentLink7URL: https://datasheet.ciiva.com/46447/444164-46447563.pdf?src-supplier=Element14; ComponentLink7Description: https://datasheet.ciiva.com/46447/444164-46447563.pdf?src-supplier=Element14; Supplier Part Number 1: 311-10.0KCRCT-ND
pins: 1, 2

## RC0805FR-0711KL
designator *  Resistance: 11kR
Res Thick Film smd 0805 11K Ohm 1% 0.125W(1/8W); Manufacturer 1: Yageo; Manufacturer Part Number 1: RC0805FR-0711KL; Description: Res Thick Film 0805 11K Ohm 1% 0.125W(1/8W) ±100ppm/C Pad SMD T/R; Power Rating: 125mW; Voltage Rating: 150V; Temperature Coefficient: 100ppm/°C; Supplier 1: Digi-Key; Stock 1: 63887; Pricing 1: 1=0,10000, 10=0,04200, 100=0,01690, 1000=0,00759, 2500=0,00659 (USD); RoHS: Yes; Mount: Surface Mount; Case/Package: 0805; Case Code (Imperial): 0805; Case Code (Metric): 2012; Size Code: 0805; Min Operating Temperature: -55°C; Max Operating Temperature: 155°C; Tolerance: 1%; Packaging: Tape and Reel; Package Quantity: 5000; Termination: SMD/SMT; Resistor Type: Thick Film; Voltage Rating (DC): 150V; Features: Moisture Resistant; Series: RC; Max Power Dissipation: 125mW; Number of Terminations: 2; Construction: Rectangular; Technology: THICK FILM; Length: 2mm; Width: 1.25mm; Height: 0.5mm; Depth: 1.25mm; Military Standard: Not; Lead Free: Lead Free; RoHS Compliant: Yes; ComponentLink1URL: https://datasheet.ciiva.com/11819/0900766b8106beab-11819790.pdf?src-supplier=RSComponents; ComponentLink1Description: https://datasheet.ciiva.com/11819/0900766b8106beab-11819790.pdf?src-supplier=RSComponents; ComponentLink2URL: https://datasheet.ciiva.com/12558/rc0805-257173-12558664.pdf?src-supplier=Mouser; ComponentLink2Description: https://datasheet.ciiva.com/12558/rc0805-257173-12558664.pdf?src-supplier=Mouser; Supplier Part Number 1: 311-11.0KCRCT-ND
pins: 1, 2

## RC0805FR-0712K7L
designator *  Resistance: 12.7kR
RES SMD 0805 12.7K OHM 1% 1/8W; Manufacturer 1: Yageo; Manufacturer Part Number 1: RC0805FR-0712K7L; Description: RES SMD 12.7K OHM 1% 1/8W 0805; Voltage Rating: 150V; Power Rating: 125mW; Temperature Coefficient: 100ppm/°C; Supplier 1: Digi-Key; Stock 1: 158859; Pricing 1: 1=0,10000, 10=0,04200, 100=0,01690, 1000=0,00759, 2500=0,00659 (USD); RoHS: Yes; Case/Package: 0805; Case Code (Imperial): 0805; Case Code (Metric): 2012; Size Code: 0805; Min Operating Temperature: -55°C; Max Operating Temperature: 155°C; Tolerance: 1%; Packaging: Tape and Reel; Package Quantity: 1; Termination: SMD/SMT; Resistor Type: Thick Film; Number of Terminations: 2; Max Power Dissipation: 125mW; Voltage Rating (DC): 150V; Features: Moisture Resistant; Series: RC; Construction: Rectangular; Length: 2mm; Width: 1.25mm; Height: 0.024inch; Depth: 1.25mm; Military Standard: Not; Lead Free: Lead Free; RoHS Compliant: Yes; ComponentLink1URL: https://datasheet.ciiva.com/12555/rc0805-257173-12555397.pdf?src-supplier=Mouser; ComponentLink1Description: https://datasheet.ciiva.com/12555/rc0805-257173-12555397.pdf?src-supplier=Mouser; ComponentLink2URL: https://datasheet.ciiva.com/2491/pyu-r-int-thick-7-2491627.pdf?src-supplier=Digi-Key; ComponentLink2Description: https://datasheet.ciiva.com/2491/pyu-r-int-thick-7-2491627.pdf?src-supplier=Digi-Key; ComponentLink3URL: https://datasheet.ciiva.com/2491/pyu-r-int-thick-7-2491628.pdf?src-supplier=Digi-Key; ComponentLink3Description: https://datasheet.ciiva.com/2491/pyu-r-int-thick-7-2491628.pdf?src-supplier=Digi-Key; ComponentLink4URL: https://datasheet.ciiva.com/2491/pyu-r-int-thick-7-2491629.pdf?src-supplier=Digi-Key; ComponentLink4Description: https://datasheet.ciiva.com/2491/pyu-r-int-thick-7-2491629.pdf?src-supplier=Digi-Key; Supplier Part Number 1: 311-12.7KCRCT-ND
pins: 1, 2

## RC0805FR-0715K8L
designator *  Resistance: 15.8kR
Res Thick Film smd 0805 15.8K Ohm 1% 0.125W(1/8W); Manufacturer 1: Yageo; Manufacturer Part Number 1: RC0805FR-0715K8L; Description: Res Thick Film 0805 15.8K Ohm 1% 0.125W(1/8W) ±100ppm/C Molded SMD Paper T/R; Temperature Coefficient: 100ppm/°C; Power Rating: 125mW; Voltage Rating: 150V; Supplier 1: Digi-Key; Stock 1: 65412; Pricing 1: 1=0,10000, 10=0,04200, 100=0,01690, 1000=0,00759, 2500=0,00659 (USD); RoHS: Yes; Case/Package: 0805; Contact Plating: Tin,Matte,Lead; Case Code (Imperial): 0805; Case Code (Metric): 2012; Size Code: 0805; Min Operating Temperature: -55°C; Max Operating Temperature: 155°C; Tolerance: 1%; Resistor Type: Thick Film; Packaging: Tape and Reel; Termination: SMD/SMT; Voltage Rating (DC): 150V; Features: Moisture Resistant; Series: RC; Max Power Dissipation: 125mW; Number of Terminations: 2; Construction: Rectangular; Length: 2mm; Depth: 1.25mm; Radiation Hardening: No; Military Standard: Not; Lead Free: Lead Free; RoHS Compliant: Yes; ComponentLink1URL: https://datasheet.ciiva.com/5558/rc0805-5558198.pdf?src-supplier=Mouser; ComponentLink1Description: https://datasheet.ciiva.com/5558/rc0805-5558198.pdf?src-supplier=Mouser; ComponentLink2URL: https://datasheet.ciiva.com/17054/rc0805-17054650.pdf?src-supplier=Future+Electronics; ComponentLink2Description: https://datasheet.ciiva.com/17054/rc0805-17054650.pdf?src-supplier=Future+Electronics; Supplier Part Number 1: 311-15.8KCRCT-ND
pins: 1, 2

## RC0805FR-0724KL
designator *  Resistance: 24kR
Yageo RC0805 smd  0805 Case 24000 1% 0.125W 24KR; Manufacturer Part Number 1: RC0805FR-0724KL; Description: Yageo RC0805 Series Thick Film Surface Mount Resistor 0805 Case 24000 1% 0.125W 100ppm/C; Power Rating: 125mW; Voltage Rating: 150V; Temperature Coefficient: 100ppm/°C; Supplier 1: Digi-Key; Manufacturer 1: Yageo; Stock 1: 43; Pricing 1: 1=0,10000, 10=0,04200, 100=0,01690, 1000=0,00759, 2500=0,00659 (USD); RoHS: Yes; Mount: Surface Mount; Case/Package: 0805; Case Code (Imperial): 0805; Case Code (Metric): 2012; Weight: 0.000194oz; Size Code: 0805; Min Operating Temperature: -55°C; Max Operating Temperature: 155°C; Tolerance: 1%; Packaging: Tape and Reel; Termination: SMD/SMT; Resistor Type: Thick Film; Voltage Rating (DC): 150V; Features: Moisture Resistant; Series: RC; Max Power Dissipation: 125mW; Number of Terminations: 2; Construction: Rectangular; Technology: THICK FILM; Length: 2mm; Width: 1.25mm; Height: 0.5mm; Depth: 1.25mm; Military Standard: Not; Lead Free: Lead Free; RoHS Compliant: Yes; ComponentLink1URL: https://datasheet.ciiva.com/11819/0900766b8106beab-11819836.pdf?src-supplier=RSComponents; ComponentLink1Description: https://datasheet.ciiva.com/11819/0900766b8106beab-11819836.pdf?src-supplier=RSComponents; ComponentLink2URL: https://datasheet.ciiva.com/5562/rc0805-5562907.pdf?src-supplier=Mouser; ComponentLink2Description: https://datasheet.ciiva.com/5562/rc0805-5562907.pdf?src-supplier=Mouser; Supplier Part Number 1: 311-24.0KCRCT-ND
pins: 1, 2

## RC0805FR-0736KL
designator *  Resistance: 36kR
RES SMD 0805 36K OHM 1% 1/8W; Manufacturer 1: Yageo; Manufacturer Part Number 1: RC0805FR-0736KL; Description: RES SMD 36K OHM 1% 1/8W 0805; Power Rating: 125mW; Voltage Rating: 150V; Temperature Coefficient: 100ppm/°C; Supplier 1: Newark; Stock 1: 13650; Pricing 1: 10=0,02600, 25=0,02100, 50=0,01600, 100=0,01000 (USD); RoHS: Yes; Case/Package: 0805; Case Code (Imperial): 0805; Case Code (Metric): 2012; Min Operating Temperature: -55°C; Max Operating Temperature: 155°C; Tolerance: 1%; Packaging: Tape and Reel; Termination: SMD/SMT; Resistor Type: Thick Film; Voltage Rating (DC): 150V; Features: Moisture Resistant; Series: RC; Max Power Dissipation: 125mW; Number of Terminations: 2; Construction: Rectangular; Length: 2mm; Depth: 1.25mm; Military Standard: Not; Lead Free: Lead Free; RoHS Compliant: Yes; ComponentLink1URL: http://www.mouser.com/ds/2/447/Yageo_08112016_RC0805-968729.pdf?src-supplier=Mouser; ComponentLink1Description: http://www.mouser.com/ds/2/447/Yageo_08112016_RC0805-968729.pdf?src-supplier=Mouser; ComponentLink2URL: http://components.arrow.com/part/dataview/0323_00201075?src-supplier=Arrow+Europe; ComponentLink2Description: http://components.arrow.com/part/dataview/0323_00201075?src-supplier=Arrow+Europe; ComponentLink3URL: http://www.yageo.com/documents/recent/PYu-RC_Group_51_RoHS_L_9.pdf?src-supplier=Digi-Key; ComponentLink3Description: http://www.yageo.com/documents/recent/PYu-RC_Group_51_RoHS_L_9.pdf?src-supplier=Digi-Key; ComponentLink4URL: http://www.yageo.com/documents/recent/PYu-RC_Group_51_RoHS_L_10.pdf?src-supplier=Digi-Key; ComponentLink4Description: http://www.yageo.com/documents/recent/PYu-RC_Group_51_RoHS_L_10.pdf?src-supplier=Digi-Key; Supplier Part Number 1: 82AH8331
pins: 1, 2

## RC0805FR-0749K9L
designator *  Resistance: 49.9kR
RES SMD  0805 49.9K OHM 1% 1/8W; Manufacturer 1: Yageo; Manufacturer Part Number 1: RC0805FR-0749K9L; Description: RES SMD 49.9K OHM 1% 1/8W 0805; Power Rating: 125mW; Voltage Rating: 150V; Temperature Coefficient: 100ppm/°C; Supplier 1: Newark; Stock 1: 2108; Pricing 1: 10=0,03300, 25=0,02600, 50=0,02000, 100=0,01300 (USD); RoHS: Yes; Mount: Surface Mount; Case/Package: 0805; Case Code (Metric): 2012; Case Code (Imperial): 0805; Min Operating Temperature: -55°C; Max Operating Temperature: 155°C; Package Quantity: 1; Tolerance: 1%; Packaging: Tape and Reel; Resistor Type: Thick Film; Number of Terminations: 2; Termination: SMD/SMT; Max Power Dissipation: 125mW; Voltage Rating (DC): 150V; Working Voltage: 150V; Features: Moisture Resistant; Series: RC; Technology: THICK FILM; Construction: Rectangular; Length: 2mm; Width: 0.049inch; Height: 0.024inch; Depth: 1.25mm; Military Standard: Not; Lead Free: Lead Free; RoHS Compliant: Yes; ComponentLink1URL: https://datasheet.ciiva.com/11808/0900766b8106beab-11808911.pdf?src-supplier=RSComponents; ComponentLink1Description: https://datasheet.ciiva.com/11808/0900766b8106beab-11808911.pdf?src-supplier=RSComponents; ComponentLink2URL: https://datasheet.ciiva.com/2456/pyu-r-int-thick-7-2456991.pdf?src-supplier=Digi-Key; ComponentLink2Description: https://datasheet.ciiva.com/2456/pyu-r-int-thick-7-2456991.pdf?src-supplier=Digi-Key; ComponentLink3URL: https://datasheet.ciiva.com/2456/pyu-r-int-thick-7-2456992.pdf?src-supplier=Digi-Key; ComponentLink3Description: https://datasheet.ciiva.com/2456/pyu-r-int-thick-7-2456992.pdf?src-supplier=Digi-Key; ComponentLink4URL: https://datasheet.ciiva.com/2456/pyu-r-int-thick-7-2456990.pdf?src-supplier=Digi-Key; ComponentLink4Description: https://datasheet.ciiva.com/2456/pyu-r-int-thick-7-2456990.pdf?src-supplier=Digi-Key; ComponentLink5URL: https://datasheet.ciiva.com/12656/rc0805-12656764.pdf?src-supplier=Mouser; ComponentLink5Description: https://datasheet.ciiva.com/12656/rc0805-12656764.pdf?src-supplier=Mouser; Supplier Part Number 1: 82AH8349
pins: 1, 2